# EAGLE library part TINYRTC (library myparts)
TinyRTC Arduino module
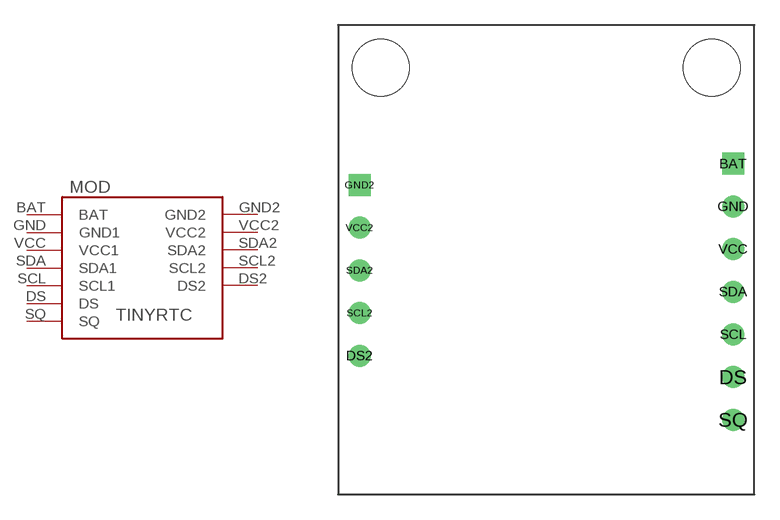
[diagram p3: symbol with the pads of TINYRTCMODULE; footprint TINYRTCMODULE]

Designator prefix MOD

## TINYRTC  [TINYRTCMODULE]
BAT  BAT  pwr
DS  DS
DS2  DS2
GND  GND1  pwr
GND2  GND2  pwr
SCL  SCL1  in
SCL2  SCL2  in
SDA  SDA1
SDA2  SDA2
SQ  SQ  out
VCC  VCC1  pwr
VCC2  VCC2  pwr

## Footprint TINYRTCMODULE (pad centres in mm)
TinyRTC board module
drill 0.8 square: BAT -1.27,-6.985; GND2 -23.495,-8.255
drill 0.8: DS -1.27,-19.685; DS2 -23.495,-18.415; GND -1.27,-9.525; SCL -1.27,-17.145; SCL2 -23.495,-15.875; SDA -1.27,-14.605; SDA2 -23.495,-13.335; SQ -1.27,-22.225; VCC -1.27,-12.065; VCC2 -23.495,-10.795
hole 3.4 at -22.225,-1.27
hole 3.4 at -2.54,-1.27